# EAGLE library part DF3-15 (library con-hirose)
Single row connector 2mm 15 way
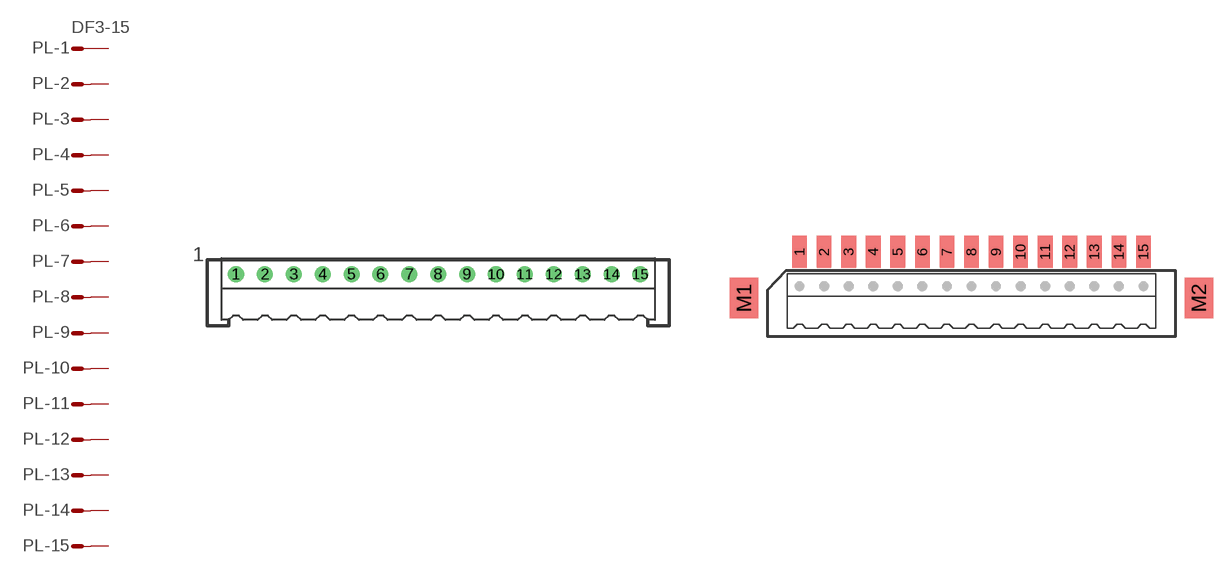
[diagram p19: symbol with the pads of DF3P-15; footprints DF3P-15, DF3DZ-15]

Designator prefix PL; gates -1=MV -2=M -3=M -4=M -5=M -6=M -7=M -8=M -9=M -10=M -11=M -12=M -13=M -14=M -15=M

## DF3-15P  [DF3P-15]
1  -1:S  pas
2  -2:S  pas
3  -3:S  pas
4  -4:S  pas
5  -5:S  pas
6  -6:S  pas
7  -7:S  pas
8  -8:S  pas
9  -9:S  pas
10  -10:S  pas
11  -11:S  pas
12  -12:S  pas
13  -13:S  pas
14  -14:S  pas
15  -15:S  pas

## DF3-15DZ  [DF3DZ-15]
Pads as for DF3P-15

## DF3-15R  [DF3R-15]
Pads as for DF3P-15

## Footprint DF3P-15 (pad centres in mm)
Single row connector 2mm 15 way
drill 0.6 round: 1 -14,1; 2 -12,1; 3 -10,1; 4 -8,1; 5 -6,1; 6 -4,1; 7 -2,1; 8 0,1; 9 2,1; 10 4,1; 11 6,1; 12 8,1; 13 10,1; 14 12,1; 15 14,1

## Footprint DF3DZ-15 (pad centres in mm)
Single row SMT connector 2mm 15 way
smd 1.2 x 2.6: 1 -14,4.1; 2 -12,4.1; 3 -10,4.1; 4 -8,4.1; 5 -6,4.1; 6 -4,4.1; 7 -2,4.1; 8 0,4.1; 9 2,4.1; 10 4,4.1; 11 6,4.1; 12 8,4.1; 13 10,4.1; 14 12,4.1; 15 14,4.1
smd 2.3 x 3.3: M1 -18.52,0.35; M2 18.52,0.35

## Footprint DF3R-15 (pad centres in mm)
Single row connector 2mm 15 way
drill 0.6 round: 1 -14,1.8; 2 -12,1.8; 3 -10,1.8; 4 -8,1.8; 5 -6,1.8; 6 -4,1.8; 7 -2,1.8; 8 0,1.8; 9 2,1.8; 10 4,1.8; 11 6,1.8; 12 8,1.8; 13 10,1.8; 14 12,1.8; 15 14,1.8